# EAGLE library part DTM1312PA12BR008 (library WFR2020)
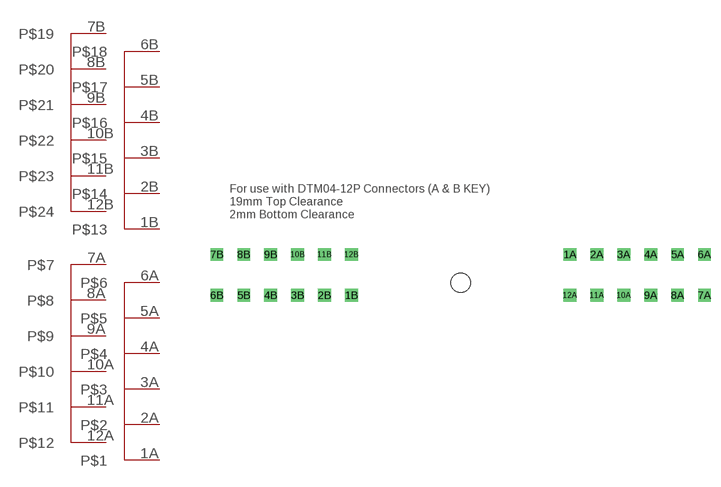
[diagram p5: symbol with the pads of DE_12X2_PIN_HEADER; footprint DE_12X2_PIN_HEADER]

Designator prefix -

## DTM1312PA12BR008  [DE_12X2_PIN_HEADER]
1A  P$1
1B  P$13
2A  P$2
2B  P$14
3A  P$3
3B  P$15
4A  P$4
4B  P$16
5A  P$5
5B  P$17
6A  P$6
6B  P$18
7A  P$7
7B  P$19
8A  P$8
8B  P$20
9A  P$9
9B  P$21
10A  P$10
10B  P$22
11A  P$11
11B  P$23
12A  P$12
12B  P$24

## Footprint DE_12X2_PIN_HEADER (pad centres in mm)
drill 1.1 pad 2 square: 1A 17.02,4.39; 1B -17.02,-1.96; 2A 21.21,4.39; 2B -21.21,-1.96; 3A 25.4,4.39; 3B -25.4,-1.96; 4A 29.59,4.39; 4B -29.59,-1.96; 5A 33.78,4.39; 5B -33.78,-1.96; 6A 37.97,4.39; 6B -37.97,-1.96; 7A 37.97,-1.96; 7B -37.97,4.39; 8A 33.78,-1.96; 8B -33.78,4.39; 9A 29.59,-1.96; 9B -29.59,4.39; 10A 25.4,-1.96; 10B -25.4,4.39; 11A 21.21,-1.96; 11B -21.21,4.39; 12A 17.02,-1.96; 12B -17.02,4.39
hole 3 at 0,0